# EAGLE library part ESP32DEVB (library ESP32DEVBo)
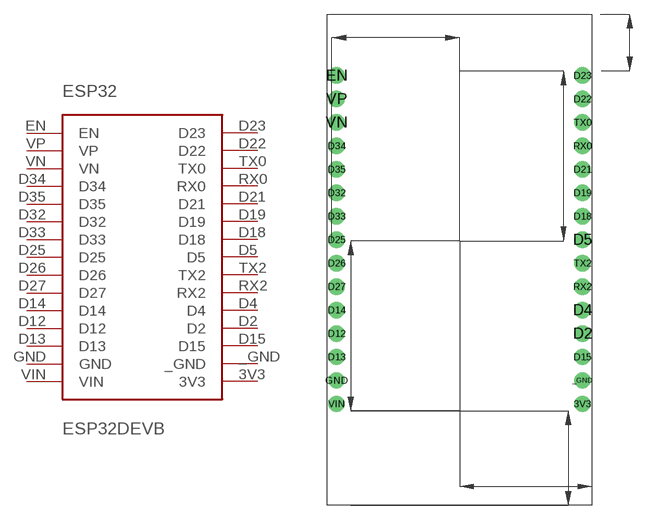
[diagram p0: symbol with the pads of ESP32DEVB; footprint ESP32DEVB]

Designator prefix ESP32

## ESP32DEVB  [ESP32DEVB]
3V3  3V3
_GND  _GND
D2  D2
D4  D4
D5  D5
D12  D12
D13  D13
D14  D14
D15  D15
D18  D18
D19  D19
D21  D21
D22  D22
D23  D23
D25  D25
D26  D26
D27  D27
D32  D32
D33  D33
D34  D34
D35  D35
EN  EN
GND  GND
RX0  RX0
RX2  RX2
TX0  TX0
TX2  TX2
VIN  VIN
VN  VN
VP  VP

## Footprint ESP32DEVB (pad centres in mm)
drill 1.15: 3V3 13,-17.26; _GND 13,-14.777; D2 13,-9.811; D4 13,-7.329; D5 13,0.12; D12 -13,-9.811; D13 -13,-12.294; D14 -13,-7.329; D15 13,-12.294; D18 13,2.603; D19 13,5.086; D21 13,7.569; D22 13,15.017; D23 13,17.5; D25 -13,0.12; D26 -13,-2.363; D27 -13,-4.846; D32 -13,5.086; D33 -13,2.603; D34 -13,10.051; D35 -13,7.569; EN -13,17.5; GND -13,-14.777; RX0 13,10.051; RX2 13,-4.846; TX0 13,12.534; TX2 13,-2.363; VIN -13,-17.26; VN -13,12.534; VP -13,15.017